# EAGLE library part 691305330007 (library Eagle_WR-TBL Pluggable Connector (rev21a))
WR-TBL Serie 3053 - 3.81 mm Vertical PCB Header KIND PROPERTIES Pitch 3.81 mm MATERIAL PROPERTIES Insulator Material PA66 Insulator Flammability Rating UL94 V-0 Insulator Color Green Contact Material Copper Alloy Contact Plating Tin GENERAL INFORMATION Operating Temperature -40 up to +105 °C Compliance Lead free / RoHS ELECTRICAL PROPERTIES IR UL 12 A Working Voltage [UL] 300 V (AC) Withstanding Voltage [UL] 2500 V (AC) Contact Resistance 20 mΩ CERTIFICATION UL Approval E315414 <https://www.we-online.com/catalog/media/o84288v209%20Family_WR-TBL_6913053300xx.jpg> Details see: https://www.we-online.com/catalog/en/TBL_3_81_3053_VERTICAL_PCB_HEADER_6913053300xx/ Updated by Ella Wu 2019-12-23 2019(C) Wurth Elektronik
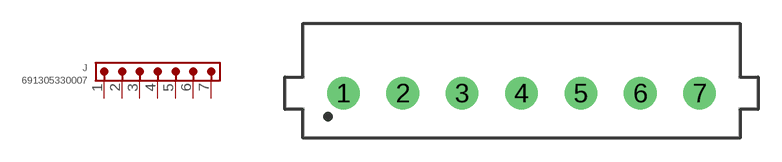
[diagram p91: symbol with the pads of 691305330007; footprint 691305330007]

Designator prefix J

## 691305330007 (DATASHEET-URL: https://www.we-online.com/catalog/datasheet/691305330007.pdf; IR-UL: 12A; MOUNT: THT; PART-NUMBER: 691305330007; PINS: 7; PITCH: 3.81mm; TYPE: Vertical; VALUE: 691305330007; WORKING-VOLTAGE-UL: 300V (AC))  [691305330007]
1  1  pas
2  2  pas
3  3  pas
4  4  pas
5  5  pas
6  6  pas
7  7  pas

## Footprint 691305330007 (pad centres in mm)
WR-TBL Serie 3053 - 3.81 mm Vertical PCB Header Max Height = 9.2mm , Pitch 3.81mm , 7pins
drill 1.4: 1 -11.43,0; 2 -7.62,0; 3 -3.81,0; 4 0,0; 5 3.81,0; 6 7.62,0; 7 11.43,0